# EAGLE library part CC1190 (library chipcon-ti-v2-alliv)
850 - 950 MHz RF Front End
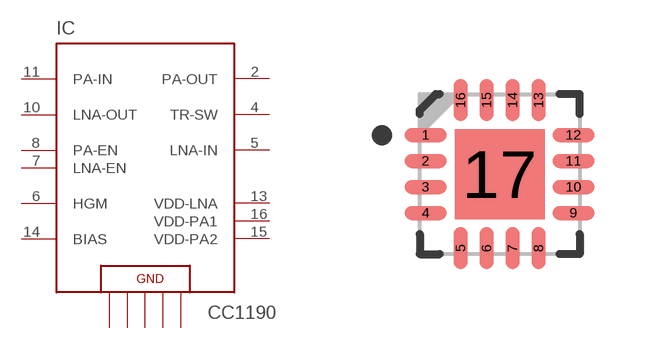
[diagram p17: symbol with the pads of QFN65P400X400X100-17N; footprint QFN65P400X400X100-17N]

Designator prefix IC

## CC1190  [QFN65P400X400X100-17N]
1  GND  pwr
2  PA-OUT
3  GND  pwr
4  TR-SW
5  LNA-IN
6  HGM  in
7  LNA-EN  in
8  PA-EN  in
9  GND  pwr
10  LNA-OUT  out
11  PA-IN
12  GND  pwr
13  VDD-LNA  pwr
14  BIAS
15  VDD-PA2  pwr
16  VDD-PA1  pwr
17  GND-PL  pwr

## Footprint QFN65P400X400X100-17N (pad centres in mm)
QFN,0.65mm pitch,square;16 pin,4.00mm L X 4.00mm W X 1.00mm H body (w/thermal tab) IPC7351A for VQFN16 (CC2590)
smd 1.05 x 0.35: 1 -1.85,0.975; 2 -1.85,0.325; 3 -1.85,-0.325; 4 -1.85,-0.975; 9 1.85,-0.975; 10 1.85,-0.325; 11 1.85,0.325; 12 1.85,0.975
smd 0.35 x 1.05: 5 -0.975,-1.85; 6 -0.325,-1.85; 7 0.325,-1.85; 8 0.975,-1.85; 13 0.975,1.85; 14 0.325,1.85; 15 -0.325,1.85; 16 -0.975,1.85
smd 2.25 x 2.25: 17 0,0